# Altium footprint library RCDQLY.PCBLIB: 125 footprints (part 3 of 8)
Each footprint in its own frame and in the unit in brackets; x right, y up, seen from the top. Pads: shape width x height; smd on the part's side, far side on the other; paste and mask are expansions set on the pad; w line width, h text height; cw(c..) or ccw(c..) is an arc to the next point about the centre after c.
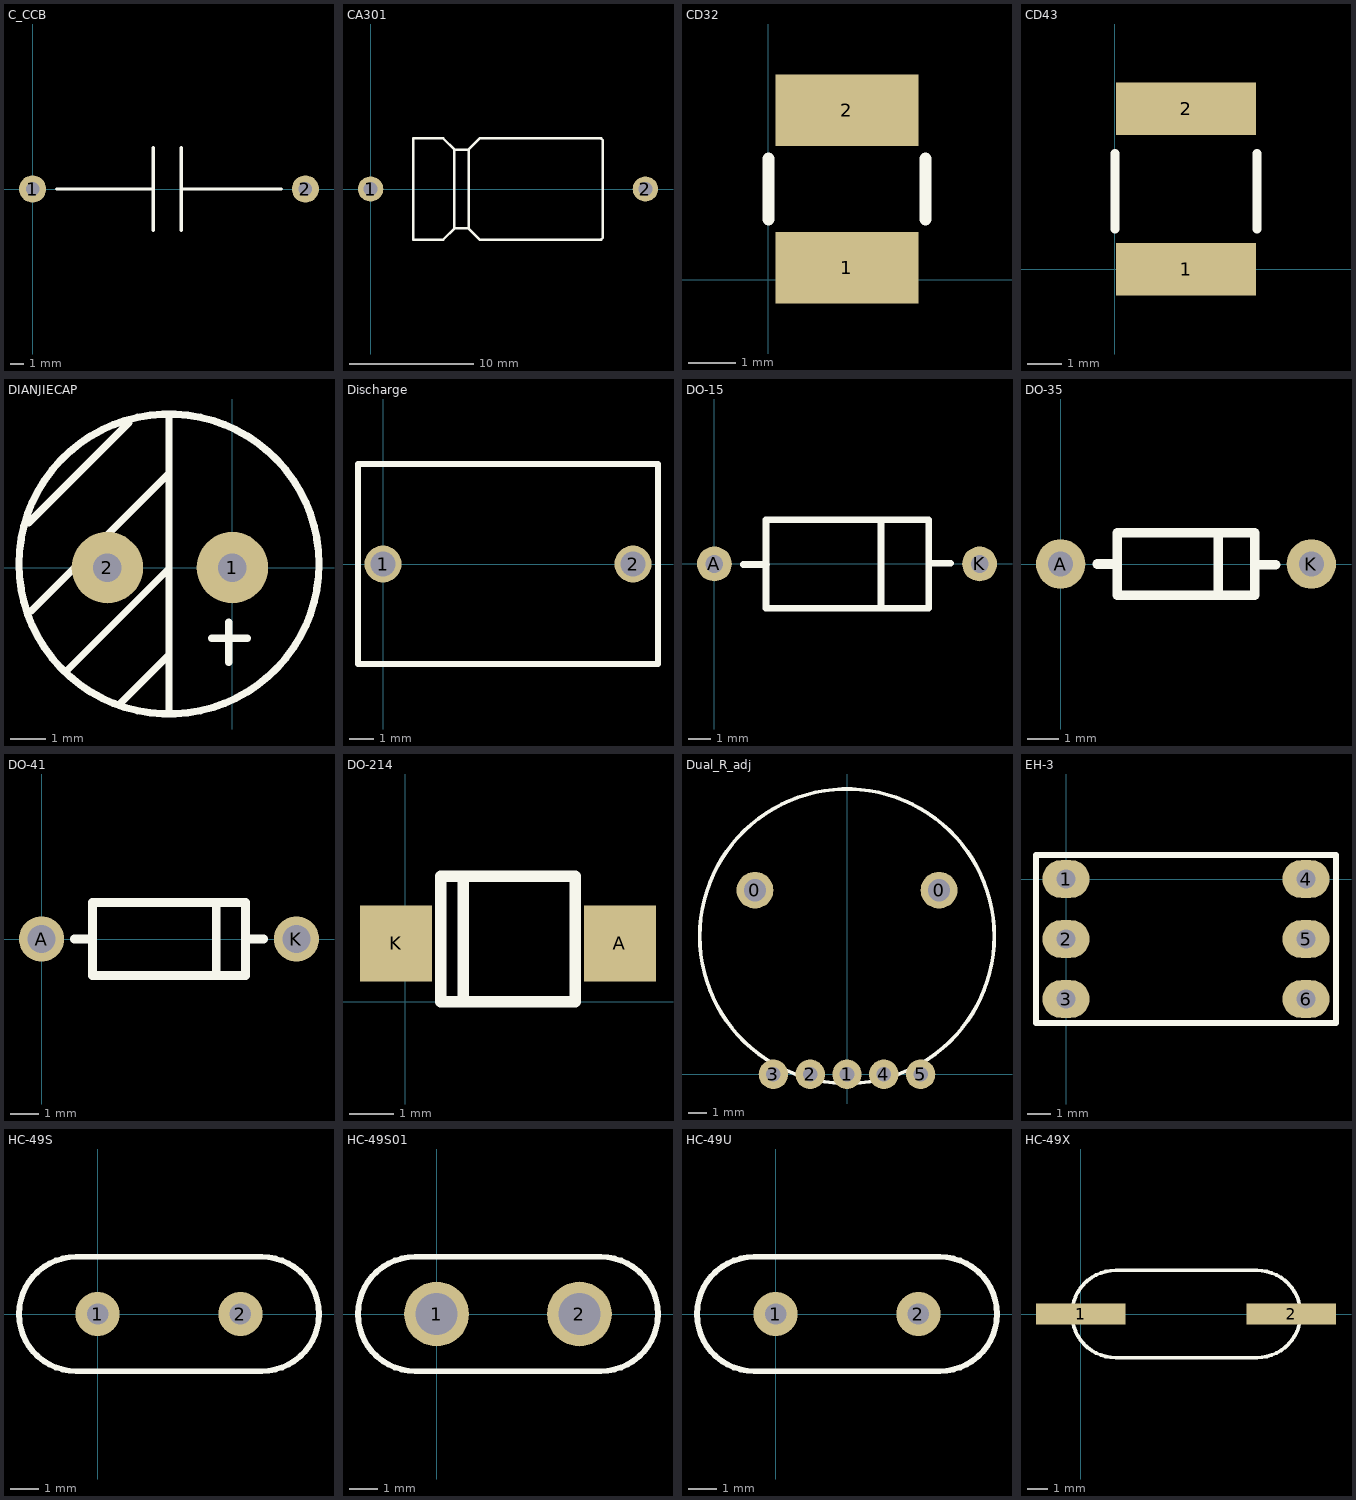
[diagram p2: the footprints below, top view; thin cyan lines are the x and y axes]

## C_CCB [mm]
pads (2):
  round 2 hole 1: 1(0,0) 2(20.066,0)
TopOverlay:
  lines w0.254: 1.778,0 8.89,0 ; 8.89,-3.048 8.89,3.048 ; 10.922,-3.048 10.922,3.048 ; 10.922,0 18.288,0

## CA301 [mil]
pads (2):
  round 80 hole 45: 1(0,0) 2(870,0)
TopOverlay:
  lines w8: 265,-115 265,-125 ; 265,-125 310,-125 ; 265,-125 265,125 ; 265,-125 230,-160 135,-160 135,160 230,160 265,125 ; 265,125 305,125 310,125 ; 310,-125 345,-160 730,-160 735,-155 735,155 730,160 345,160 310,125 ; 310,-125 310,125

## CD32 [mil]
pads (2):
  rect 118.11x59.06 smd: 1(65,10) 2(65,140)
TopOverlay:
  lines w10: 0,50 0,100 ; 130,50 130,100

## CD43 [mm]
pads (2):
  rect 4x1.5 smd: 1(2.032,0) 2(2.032,4.572)
TopOverlay:
  lines w0.254: 0,1.143 0,3.302 ; 4.064,1.143 4.064,3.302

## DIANJIECAP [mm]
pads (2):
  round 2 hole 0.8: 1(0,0) 2(-3.5,0)
TopOverlay:
  circle w0.203: c-1.775,0.102 r4.2
  lines w0.203: -5.703,1.253 -2.9,4.057 ; -5.633,-1.216 -1.775,2.642 ; -4.6,-2.85 -1.775,-0.025 ; -3.119,-3.782 -1.775,-2.438 ; -1.775,-4.05 -1.775,4.25 ; -0.575,-1.975 0.425,-1.975 ; -0.1,-2.657 -0.1,-1.525

## Discharge [mm]
pads (2):
  round 1.5 hole 1: 1(0,0) 2(10.16,0)
TopOverlay:
  lines w0.254: -1.016,-4.064 11.176,-4.064 11.176,4.064 -1.016,4.064 -1.016,-4.064

## DO-15 [mil]
pads (2):
  round 62 hole 31.5: A(0,0) K(472.44,0)
TopOverlay:
  lines w12: 51.18,-1 93,-1 ; 92,-78.74 381.89,-78.74 ; 92,-78 92,78.48 ; 92,78.74 381.89,78.74 ; 297,-78.74 297,78.74 ; 382,-79 382,78.48 ; 388,1 421.26,1

## DO-35 [mil]
pads (2):
  round 62 hole 31.5: A(0,0) K(314.96,0)
TopOverlay:
  lines w12: 46,0 71,0 ; 198,-39.37 198,39.37 ; 245,-1 270,-1 ; 71,-39.37 71,39.37 244,39.37 244,-39.37 71,-39.37

## DO-41 [mil]
pads (2):
  round 62 hole 38: A(0,0) K(350,0)
TopOverlay:
  lines w12: 45,0 70,0 ; 240,-50 240,50 ; 280,0 305,0 ; 70,-50 280,-50 280,50 70,50 70,-50

## DO-214 [mm]
pads (2):
  rect 1.6x1.7 smd: A(4.8,1.3) K(-0.2,1.3)
TopOverlay:
  lines w0.254: 1.3,0 1.3,2.8 ; 0.8,0 3.8,0 3.8,2.8 0.8,2.8 0.8,0
3D body "User Library-DO-214AC SMA.step": height 2.4, standoff 0, extent -0.4,0 4.8,2.6

## Dual_R_adj [mm]
pads (7):
  round 2 hole 1.2: 0(-5,10) 0(5,10)
  round 1.6 hole 0.8: 1(0,0) 2(-2,0) 3(-4,0) 4(2,0) 5(4,0)
TopOverlay:
  circle w0.2: c0,7.5 r8
3D body: height 3, standoff 1.5, extent -5,0 5,10
3D body: height 5, standoff 3, extent -8,-0.498 8,15.498

## EH-3 [mm]
pads (6):
  oval 2x1.6 hole 0.8: 1(0,0) 2(0,-2.54) 3(0,-5.08) 4(10.16,0) 5(10.16,-2.54) 6(10.16,-5.08)
TopOverlay:
  lines w0.254: -1.27,-6.096 11.43,-6.096 11.43,1.016 -1.27,1.016 -1.27,-6.096

## HC-49S [mil]
pads (2):
  round 62 hole 30: 1(0,0) 2(200,0)
TopOverlay:
  lines w8: -30,-80 cw(c-30,0) -30,80 230,80 cw(c230,0) 230,-80 -30,-80

## HC-49S01 [mm]
pads (2):
  round 2.3 hole 1.5: 1(0,0) 2(5.08,0)
TopOverlay:
  lines w0.203: -0.762,-2.032 cw(c-0.762,0) -0.762,2.032 5.842,2.032 cw(c5.842,0) 5.842,-2.032 -0.762,-2.032

## HC-49U [mil]
pads (2):
  round 62 hole 30: 1(0,0) 2(200,0)
TopOverlay:
  lines w8: -30,-80 cw(c-30,0) -30,80 230,80 cw(c230,0) 230,-80 -30,-80

## HC-49X [mm]
pads (2):
  rect 4.3x1 smd: 1(0,0) 2(10.135,0)
TopOverlay:
  lines w0.178: 1.68,-2.1 cw(c1.68,0) 1.68,2.1 8.48,2.1 cw(c8.48,0) 8.48,-2.1 1.68,-2.1